# Altium schematic symbol library 5717YG105ZAT4A_1.Schlib: 1 symbol
Pins are listed as number, name and electrical type; pins without a type are passive.

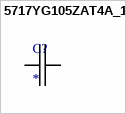
[diagram p0: symbol 5717YG105ZAT4A_1]

## 5717YG105ZAT4A_1
designator C?
Capacitor, Ceramic, 0.1uF, 16VDC, 20-% Tol, 80+% Tol, Y5V-TC Code, -82, 22%-TC
pins: 1, 2